# EAGLE library part MAX232ESE+ (library MAX232ESE+)
MAX232ESE+, Dual Line Transceiver, EIA/TIA-232, RS-232, V.24, V.28 2 2 2 120 kbit/s, 4.5 5.5 V, 16-Pin SOIC Source: Datasheet <http://datasheets.maximintegrated.com/en/ds/MAX220-MAX249.pdf>
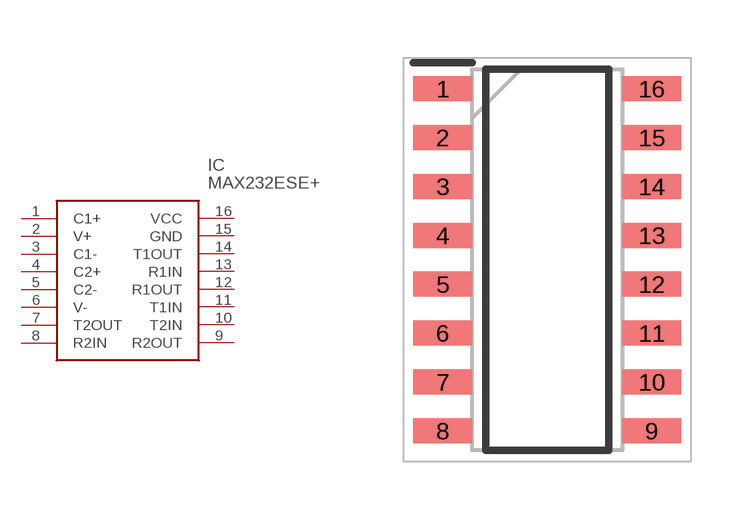
[diagram p0: symbol with the pads of SOIC127P600X175-16N; footprint SOIC127P600X175-16N]

Designator prefix IC

## MAX232ESE+ (Description: MAX232ESE+, Dual Line Transceiver, EIA/TIA-232, RS-232, V.24, V.28 2 2 2 120 kbit/s, 4.5 5.5 V, 16-Pin SOIC; Height: 1.75mm; Manufacturer_Name: Maxim Integrated; Manufacturer_Part_Number: MAX232ESE+; Mouser_Part_Number: 700-MAX232ESE; Mouser_Price-Stock: https://www.mouser.co.uk/ProductDetail/Maxim-Integrated/MAX232ESE%2b?qs=1THa7WoU59FscU%252BHs2cGrQ%3D%3D)  [SOIC127P600X175-16N]
1  C1+
2  V+  pwr
3  C1-
4  C2+
5  C2-
6  V-  pwr
7  T2OUT  out
8  R2IN  in
9  R2OUT  out
10  T2IN  in
11  T1IN  in
12  R1OUT  out
13  R1IN  in
14  T1OUT  out
15  GND  pwr
16  VCC  pwr

## Footprint SOIC127P600X175-16N (pad centres in mm)
16 Narrow SO
smd 1.525 x 0.65: 1 -2.712,4.445; 2 -2.712,3.175; 3 -2.712,1.905; 4 -2.712,0.635; 5 -2.712,-0.635; 6 -2.712,-1.905; 7 -2.712,-3.175; 8 -2.712,-4.445; 9 2.712,-4.445; 10 2.712,-3.175; 11 2.712,-1.905; 12 2.712,-0.635; 13 2.712,0.635; 14 2.712,1.905; 15 2.712,3.175; 16 2.712,4.445